# Altium footprint library PcbLib1.PcbLib: 1 footprints
Each footprint in its own frame and in the unit in brackets; x right, y up, seen from the top. Pads: shape width x height; smd on the part's side, far side on the other; paste and mask are expansions set on the pad; w line width, h text height; cw(c..) or ccw(c..) is an arc to the next point about the centre after c.
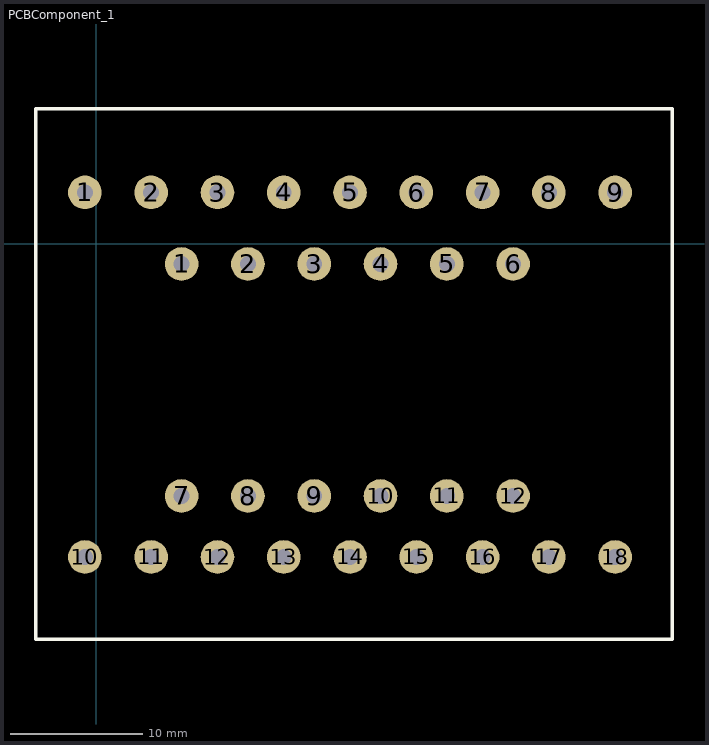
[diagram p0: the footprint, top view; thin cyan lines are the x and y axes]

## PCBComponent_1 [mm]
pads (30):
  round 2.54 hole 1.2: 1(-0.872,3.86) 1(6.428,-1.54) 2(4.128,3.86) 2(11.428,-1.54) 3(9.128,3.86) 3(16.428,-1.54) 4(14.128,3.86) 4(21.428,-1.54) 5(19.128,3.86) 5(26.428,-1.54) 6(24.128,3.86) 6(31.428,-1.54) 7(6.428,-19.04) 7(29.128,3.86) 8(11.428,-19.04) 8(34.128,3.86) 9(16.428,-19.04) 9(39.128,3.86) 10(-0.872,-23.64) 10(21.428,-19.04) 11(4.128,-23.64) 11(26.428,-19.04) 12(9.128,-23.64) 12(31.428,-19.04) 13(14.128,-23.64) 14(19.128,-23.64) 15(24.128,-23.64) 16(29.128,-23.64) 17(34.128,-23.64) 18(39.128,-23.64)
Top Overlay:
  lines w0.254: -4.572,-29.84 43.428,-29.84 43.428,10.16 -4.572,10.16 -4.572,-29.84
3D body: height 21.4, standoff -4.1, extent 4.55,-22.225 33.55,1.775